# Altium schematic symbol library LocalParts.SchLib: 1 symbol
Pins are listed as number, name and electrical type; pins without a type are passive.

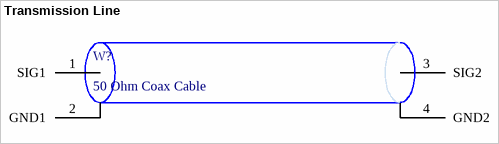
[diagram p0: symbol Transmission Line]

## Transmission Line
designator W?, comment 50 Ohm Coax Cable
Transmission Line symbol
pins: 1 SIG1, 2 GND1, 3 SIG2, 4 GND2